# Altium schematic symbol library LMV342IDGKR.SchLib: 1 symbol
Pins are listed as number, name and electrical type; pins without a type are passive.

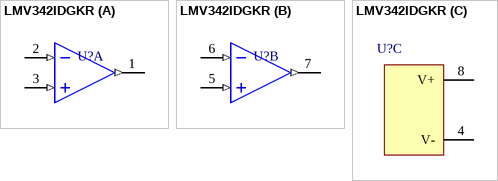
[diagram p0: symbol LMV342IDGKR]

## LMV342IDGKR
designator U?
part A pins: 1 1OUT (out), 2 1IN- (in), 3 1IN+ (in)
part B pins: 5 2IN- (in), 6 2IN+ (in), 7 2OUT (out)
part C pins: 4 V- (power), 8 V+ (power)